# Altium schematic symbol library kmilo17pet-TI_LDO_400_7500.SchLib: 1409 symbols (part 17 of 60)
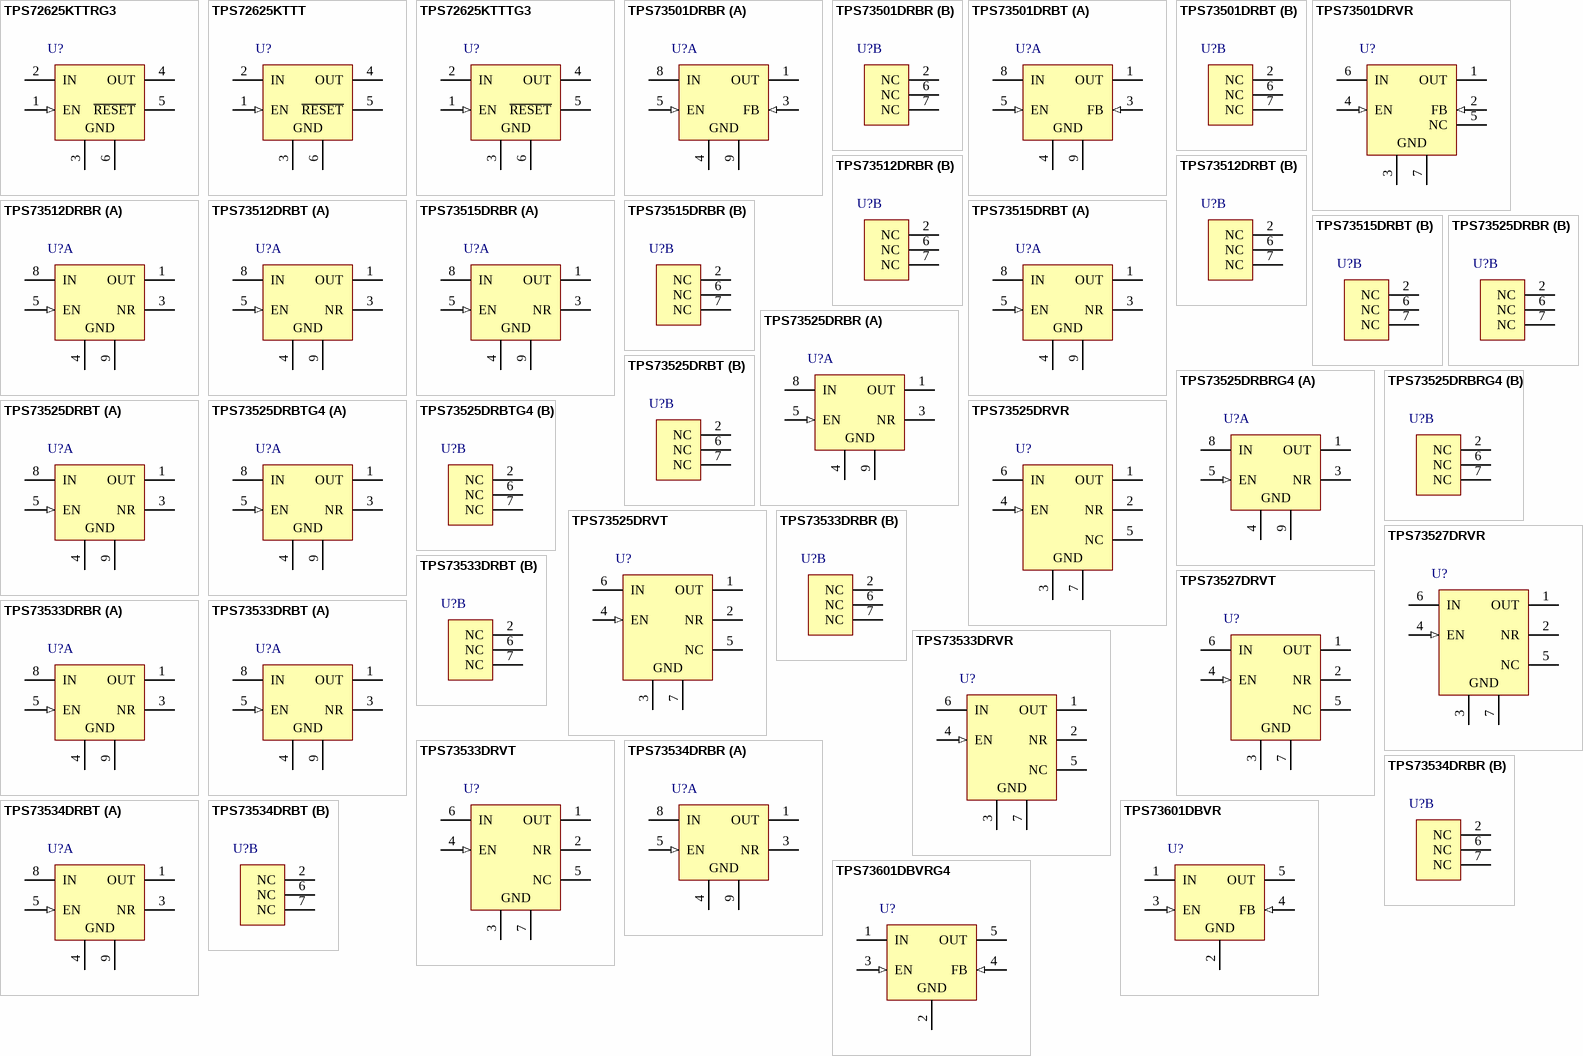
[diagram p66: symbols TPS72625KTTRG3 to TPS73601DBVRG4]

## TPS72625KTTTG3
designator U?
Single Output Any Cap LDO, 1 A, Fixed 2.5 V Output, 1.8 to 6 V Input, with Integrated SVS, 5-pin DDPAK (KTT), -40 to 125 degC, Green (RoHS & no Sb/Br); Manufacturer: Texas Instruments; PartNumber: TPS72625KTTTG3; Accuracy(%): 2; Fixed Output Options(V): 2.5; Iout(Max)(A): 1; Iq(Typ)(mA): 0.07; SubFamily: Single Channel LDO; Vdo(Typ)(mV): 170; Vin(Max)(V): 6; Vin(Min)(V): 1.8; DatasheetVersion: SLVS403H; PackageVersion: 4200577-3/F; PackageReference: KTT5; PackageDescription: 3-Pin Plastic Flange Mount, Body 10.16 x 10.34 mm, Pitch 1.7 mm; Supplier 1: Digi-Key; Supplier Part Number 1: TPS72625KTTTG3-ND; Supplier 2: Mouser; Supplier Part Number 2: 595-TPS72625KTTTG3; Eco-Plan: Green (RoHS & no Sb/Br); Vout Adj(Max)(V): 2.5; Vout Adj(Min)(V): 2.5; Mounting Technology: Surface Mount; Code_JEDEC: TO-263; ComponentLink1Description: Manufacturer URL; ComponentLink1URL: http://www.ti.com/; ComponentLink2Description: Datasheet; ComponentLink2URL: http://www.ti.com/general/docs/lit/getliterature.tsp?genericPartNumber=TPS72625&fileType=pdf; ComponentLink3Description: Package Specification; ComponentLink3URL: http://www.ti.com/litv/pdf/mpsf007e
footprint TI-KTT5_N (DPAK, 5-Leads, Body 10.16x8.925mm, Pitch 1.7mm, IPC Medium Density)
footprint TI-KTT5_L (DPAK, 5-Leads, Body 10.16x8.925mm, Pitch 1.7mm, IPC High Density)
footprint TI-KTT5_M (DPAK, 5-Leads, Body 10.16x8.925mm, Pitch 1.7mm, IPC Low Density)
pins: 1 EN (in) "Enable input", 2 IN (power) "Input supply voltage", 3 GND (power) "Ground", 4 OUT (power) "Regulated output voltage", 5 ~{RESET} (oc) "This terminal is the R\E\S\E\T\ output. When used with a pull-up resistor, this open-drain output provides the active low R\E\S\E\T\ signal when the regulator output voltage drops more than 5% below its nominal output (See Datasheet)", 6 GND (power) "Exposed Thermal Tab"

## TPS73501DRBR
designator U?
Single Output High PSRR LDO, 500 mA, Adjustable 1.25 to 6 V Output, 2.7 to 6.5 V Input, with Low IQ, 8-pin SON (DRB), -40 to 125 degC, Green (RoHS & no Sb/Br); Manufacturer: Texas Instruments; PartNumber: TPS73501DRBR; Accuracy(%): 2; Iout(Max)(A): 0.5; Iq(Typ)(mA): 0.04; SubFamily: Single Channel LDO; Vdo(Typ)(mV): 280; Vin(Max)(V): 6.5; Vin(Min)(V): 2.7; Vout Adj(Max)(V): 6; Vout Adj(Min)(V): 1.25; DatasheetVersion: SBVS087J; PackageVersion: 4203482-2/K; PackageReference: DRB8-1750X1500TP; PackageDescription: 8-Pin Plastic Small Outline, Body 3 x 3 mm, Pitch 0.65 mm; Supplier 1: Digi-Key; Supplier Part Number 1: TPS73501DRBR-ND; Supplier 2: Newark; Supplier Part Number 2: 25R0143; Supplier 3: Mouser; Supplier Part Number 3: 595-TPS73501DRBR; Eco-Plan: Green (RoHS & no Sb/Br); Mounting Technology: Surface Mount; ComponentLink1Description: Manufacturer URL; ComponentLink1URL: http://www.ti.com/; ComponentLink2Description: Datasheet; ComponentLink2URL: http://www.ti.com/general/docs/lit/getliterature.tsp?genericPartNumber=TPS73501&fileType=pdf; ComponentLink3Description: Package Specification; ComponentLink3URL: http://www.ti.com/litv/pdf/mpds118h
footprint TI-DRB8-1750X1500TP_V (SON, 8-Leads, Body 3x3mm, Pitch 0.65mm, Thermal Pad 1.50 x 3.8mm)
part A pins: 1 OUT (power) "Output of the regulator. A small capacitor (total typical capacitance >= 2.0uF ceramic) is needed from this pin to ground to assure stability.", 3 FB (in) "Adjustable version only; this is the input to the control loop error amplifier, and is used to set the output voltage of the device.", 4 GND (power) "Ground", 5 EN (in) "Driving the enable pin (EN) high turns on the regulator. Driving this pin low puts the regulator into shutdown mode. EN can be connected to IN if not used.", 8 IN (power) "Input supply.", 9 GND (power) "The pad must be tied to GND."
part B pins: 2 NC "Not internally connected. This pin must either be left open, or tied to GND.", 6 NC "Not internally connected. This pin must either be left open, or tied to GND.", 7 NC "Not internally connected. This pin must either be left open, or tied to GND."

## TPS73501DRBT
designator U?
Single Output High PSRR LDO, 500 mA, Adjustable 1.25 to 6 V Output, 2.7 to 6.5 V Input, with Low IQ, 8-pin SON (DRB), -40 to 125 degC, Green (RoHS & no Sb/Br); Manufacturer: Texas Instruments; PartNumber: TPS73501DRBT; Accuracy(%): 2; Iout(Max)(A): 0.5; Iq(Typ)(mA): 0.04; SubFamily: Single Channel LDO; Vdo(Typ)(mV): 280; Vin(Max)(V): 6.5; Vin(Min)(V): 2.7; Vout Adj(Max)(V): 6; Vout Adj(Min)(V): 1.25; DatasheetVersion: SBVS087J; PackageVersion: 4203482-2/K; PackageReference: DRB8-1750X1500TP; PackageDescription: 8-Pin Plastic Small Outline, Body 3 x 3 mm, Pitch 0.65 mm; Supplier 1: Digi-Key; Supplier Part Number 1: 296-24873-2-ND; Supplier 2: Digi-Key; Supplier Part Number 2: 296-24873-1-ND; Supplier 3: Digi-Key; Supplier Part Number 3: 296-24873-6-ND; Supplier 4: Farnell; Supplier Part Number 4: 2075423; Supplier 5: Newark; Supplier Part Number 5: 82T3172; Supplier 6: Newark; Supplier Part Number 6: 25R0144; Supplier 7: Mouser; Supplier Part Number 7: 595-TPS73501DRBT; Eco-Plan: Green (RoHS & no Sb/Br); Mounting Technology: Surface Mount; ComponentLink1Description: Manufacturer URL; ComponentLink1URL: http://www.ti.com/; ComponentLink2Description: Datasheet; ComponentLink2URL: http://www.ti.com/general/docs/lit/getliterature.tsp?genericPartNumber=TPS73501&fileType=pdf; ComponentLink3Description: Package Specification; ComponentLink3URL: http://www.ti.com/litv/pdf/mpds118h
footprint TI-DRB8-1750X1500TP_V (SON, 8-Leads, Body 3x3mm, Pitch 0.65mm, Thermal Pad 1.50 x 3.8mm)
part A pins: 1 OUT (power) "Output of the regulator. A small capacitor (total typical capacitance >= 2.0uF ceramic) is needed from this pin to ground to assure stability.", 3 FB (in) "Adjustable version only; this is the input to the control loop error amplifier, and is used to set the output voltage of the device.", 4 GND (power) "Ground", 5 EN (in) "Driving the enable pin (EN) high turns on the regulator. Driving this pin low puts the regulator into shutdown mode. EN can be connected to IN if not used.", 8 IN (power) "Input supply.", 9 GND (power) "The pad must be tied to GND."
part B pins: 2 NC "Not internally connected. This pin must either be left open, or tied to GND.", 6 NC "Not internally connected. This pin must either be left open, or tied to GND.", 7 NC "Not internally connected. This pin must either be left open, or tied to GND."

## TPS73501DRVR
designator U?
Single Output High PSRR LDO, 500 mA, Adjustable 1.25 to 6 V Output, 2.7 to 6.5 V Input, with Low IQ, 6-pin SON (DRV), -40 to 125 degC, Green (RoHS & no Sb/Br); Manufacturer: Texas Instruments; PartNumber: TPS73501DRVR; Accuracy(%): 2; Iout(Max)(A): 0.5; Iq(Typ)(mA): 0.04; SubFamily: Single Channel LDO; Vdo(Typ)(mV): 280; Vin(Max)(V): 6.5; Vin(Min)(V): 2.7; Vout Adj(Max)(V): 6; Vout Adj(Min)(V): 1.25; DatasheetVersion: SBVS087J; PackageVersion: 4206925/E; PackageReference: DRV6-1600X1000TP; PackageDescription: 6-Pin Plastic Small Outline No-Lead, Body 2 x 2 mm, Pitch 0.65 mm; Supplier 1: Digi-Key; Supplier Part Number 1: 296-34785-2-ND; Supplier 2: Digi-Key; Supplier Part Number 2: 296-34785-1-ND; Supplier 3: Digi-Key; Supplier Part Number 3: 296-34785-6-ND; Supplier 4: Newark; Supplier Part Number 4: 27W9763; Supplier 5: Mouser; Supplier Part Number 5: 595-TPS73501DRVR; Eco-Plan: Green (RoHS & no Sb/Br); Mounting Technology: Surface Mount; ComponentLink1Description: Manufacturer URL; ComponentLink1URL: http://www.ti.com/; ComponentLink2Description: Datasheet; ComponentLink2URL: http://www.ti.com/general/docs/lit/getliterature.tsp?genericPartNumber=TPS73501&fileType=pdf; ComponentLink3Description: Package Specification; ComponentLink3URL: http://www.ti.com/litv/pdf/mpds216d
footprint TI-DRV6-1600X1000TP_V (SON, 6-Leads, Body 2x2mm, Pitch 0.65mm, Thermal Pad 1X1.6mm)
pins: 1 OUT (power) "Output of the regulator. A small capacitor (total typical capacitance = 2.0uF ceramic) is needed from this pin to ground to assure stability.", 2 FB (in) "Adjustable version only; this is the input to the control loop error amplifier, and is used to set the output voltage of the device.", 3 GND (power) "Ground", 4 EN (in) "Driving the enable pin (EN) high turns on the regulator. Driving this pin low puts the regulator into shutdown mode. EN can be connected to IN if not used.", 5 NC "Not internally connected. This pin must either be left open, or tied to GND.", 6 IN (power) "Input supply.", 7 GND (power) "The pad must be tied to GND."

## TPS73512DRBR
designator U?
Single Output High PSRR LDO, 500 mA, Fixed 1.2 V Output, 2.7 to 6.5 V Input, with Low IQ, 8-pin SON (DRB), -40 to 125 degC, Green (RoHS & no Sb/Br); Manufacturer: Texas Instruments; PartNumber: TPS73512DRBR; Accuracy(%): 2; Fixed Output Options(V): 1.2; Iout(Max)(A): 0.5; Iq(Typ)(mA): 0.04; SubFamily: Single Channel LDO; Vdo(Typ)(mV): 280; Vin(Max)(V): 6.5; Vin(Min)(V): 2.7; DatasheetVersion: SBVS087J; PackageVersion: 4203482-2/K; PackageReference: DRB8-1750X1500TP; PackageDescription: 8-Pin Plastic Small Outline, Body 3 x 3 mm, Pitch 0.65 mm; Supplier 1: Digi-Key; Supplier Part Number 1: TPS73512DRBR-ND; Supplier 2: Mouser; Supplier Part Number 2: 595-TPS73512DRBR; Eco-Plan: Green (RoHS & no Sb/Br); Vout Adj(Max)(V): 1.2; Vout Adj(Min)(V): 1.2; Mounting Technology: Surface Mount; ComponentLink1Description: Manufacturer URL; ComponentLink1URL: http://www.ti.com/; ComponentLink2Description: Datasheet; ComponentLink2URL: http://www.ti.com/general/docs/lit/getliterature.tsp?genericPartNumber=TPS73512&fileType=pdf; ComponentLink3Description: Package Specification; ComponentLink3URL: http://www.ti.com/litv/pdf/mpds118h
footprint TI-DRB8-1750X1500TP_V (SON, 8-Leads, Body 3x3mm, Pitch 0.65mm, Thermal Pad 1.50 x 3.8mm)
part A pins: 1 OUT (power) "Output of the regulator. A small capacitor (total typical capacitance = 2.0uF ceramic) is needed from this pin to ground to assure stability.", 3 NR "Fixed voltage versions only; connecting an external capacitor to this pin bypasses noise generated by the internal bandgap. This allows output noise to be reduced to very low levels.", 4 GND (power) "Ground", 5 EN (in) "Driving the enable pin (EN) high turns on the regulator. Driving this pin low puts the regulator into shutdown mode. EN can be connected to IN if not used.", 8 IN (power) "Input supply.", 9 GND (power) "The pad must be tied to GND."
part B pins: 2 NC "Not internally connected. This pin must either be left open, or tied to GND.", 6 NC "Not internally connected. This pin must either be left open, or tied to GND.", 7 NC "Not internally connected. This pin must either be left open, or tied to GND."

## TPS73512DRBT
designator U?
Single Output High PSRR LDO, 500 mA, Fixed 1.2 V Output, 2.7 to 6.5 V Input, with Low IQ, 8-pin SON (DRB), -40 to 125 degC, Green (RoHS & no Sb/Br); Manufacturer: Texas Instruments; PartNumber: TPS73512DRBT; Accuracy(%): 2; Fixed Output Options(V): 1.2; Iout(Max)(A): 0.5; Iq(Typ)(mA): 0.04; SubFamily: Single Channel LDO; Vdo(Typ)(mV): 280; Vin(Max)(V): 6.5; Vin(Min)(V): 2.7; DatasheetVersion: SBVS087J; PackageVersion: 4203482-2/K; PackageReference: DRB8-1750X1500TP; PackageDescription: 8-Pin Plastic Small Outline, Body 3 x 3 mm, Pitch 0.65 mm; Supplier 1: Digi-Key; Supplier Part Number 1: 296-27804-2-ND; Supplier 2: Digi-Key; Supplier Part Number 2: 296-27804-1-ND; Supplier 3: Digi-Key; Supplier Part Number 3: 296-27804-6-ND; Supplier 4: Newark; Supplier Part Number 4: 01T0890; Supplier 5: Mouser; Supplier Part Number 5: 595-TPS73512DRBT; Eco-Plan: Green (RoHS & no Sb/Br); Vout Adj(Max)(V): 1.2; Vout Adj(Min)(V): 1.2; Mounting Technology: Surface Mount; ComponentLink1Description: Manufacturer URL; ComponentLink1URL: http://www.ti.com/; ComponentLink2Description: Datasheet; ComponentLink2URL: http://www.ti.com/general/docs/lit/getliterature.tsp?genericPartNumber=TPS73512&fileType=pdf; ComponentLink3Description: Package Specification; ComponentLink3URL: http://www.ti.com/litv/pdf/mpds118h
footprint TI-DRB8-1750X1500TP_V (SON, 8-Leads, Body 3x3mm, Pitch 0.65mm, Thermal Pad 1.50 x 3.8mm)
part A pins: 1 OUT (power) "Output of the regulator. A small capacitor (total typical capacitance = 2.0uF ceramic) is needed from this pin to ground to assure stability.", 3 NR "Fixed voltage versions only; connecting an external capacitor to this pin bypasses noise generated by the internal bandgap. This allows output noise to be reduced to very low levels.", 4 GND (power) "Ground", 5 EN (in) "Driving the enable pin (EN) high turns on the regulator. Driving this pin low puts the regulator into shutdown mode. EN can be connected to IN if not used.", 8 IN (power) "Input supply.", 9 GND (power) "The pad must be tied to GND."
part B pins: 2 NC "Not internally connected. This pin must either be left open, or tied to GND.", 6 NC "Not internally connected. This pin must either be left open, or tied to GND.", 7 NC "Not internally connected. This pin must either be left open, or tied to GND."

## TPS73515DRBR
designator U?
Single Output High PSRR LDO, 500 mA, Fixed 1.5 V Output, 2.7 to 6.5 V Input, with Low IQ, 8-pin SON (DRB), -40 to 125 degC, Green (RoHS & no Sb/Br); Manufacturer: Texas Instruments; PartNumber: TPS73515DRBR; Accuracy(%): 2; Fixed Output Options(V): 1.5; Iout(Max)(A): 0.5; Iq(Typ)(mA): 0.04; SubFamily: Single Channel LDO; Vdo(Typ)(mV): 280; Vin(Max)(V): 6.5; Vin(Min)(V): 2.7; DatasheetVersion: SBVS087J; PackageVersion: 4203482-2/K; PackageReference: DRB8-1750X1500TP; PackageDescription: 8-Pin Plastic Small Outline, Body 3 x 3 mm, Pitch 0.65 mm; Supplier 1: Digi-Key; Supplier Part Number 1: TPS73515DRBR-ND; Supplier 2: Mouser; Supplier Part Number 2: 595-TPS73515DRBR; Eco-Plan: Green (RoHS & no Sb/Br); Vout Adj(Max)(V): 1.5; Vout Adj(Min)(V): 1.5; Mounting Technology: Surface Mount; ComponentLink1Description: Manufacturer URL; ComponentLink1URL: http://www.ti.com/; ComponentLink2Description: Datasheet; ComponentLink2URL: http://www.ti.com/general/docs/lit/getliterature.tsp?genericPartNumber=TPS73515&fileType=pdf; ComponentLink3Description: Package Specification; ComponentLink3URL: http://www.ti.com/litv/pdf/mpds118h
footprint TI-DRB8-1750X1500TP_V (SON, 8-Leads, Body 3x3mm, Pitch 0.65mm, Thermal Pad 1.50 x 3.8mm)
part A pins: 1 OUT (power) "Output of the regulator. A small capacitor (total typical capacitance = 2.0uF ceramic) is needed from this pin to ground to assure stability.", 3 NR "Fixed voltage versions only; connecting an external capacitor to this pin bypasses noise generated by the internal bandgap. This allows output noise to be reduced to very low levels.", 4 GND (power) "Ground", 5 EN (in) "Driving the enable pin (EN) high turns on the regulator. Driving this pin low puts the regulator into shutdown mode. EN can be connected to IN if not used.", 8 IN (power) "Input supply.", 9 GND (power) "The pad must be tied to GND."
part B pins: 2 NC "Not internally connected. This pin must either be left open, or tied to GND.", 6 NC "Not internally connected. This pin must either be left open, or tied to GND.", 7 NC "Not internally connected. This pin must either be left open, or tied to GND."

## TPS73515DRBT
designator U?
Single Output High PSRR LDO, 500 mA, Fixed 1.5 V Output, 2.7 to 6.5 V Input, with Low IQ, 8-pin SON (DRB), -40 to 125 degC, Green (RoHS & no Sb/Br); Manufacturer: Texas Instruments; PartNumber: TPS73515DRBT; Accuracy(%): 2; Fixed Output Options(V): 1.5; Iout(Max)(A): 0.5; Iq(Typ)(mA): 0.04; SubFamily: Single Channel LDO; Vdo(Typ)(mV): 280; Vin(Max)(V): 6.5; Vin(Min)(V): 2.7; DatasheetVersion: SBVS087J; PackageVersion: 4203482-2/K; PackageReference: DRB8-1750X1500TP; PackageDescription: 8-Pin Plastic Small Outline, Body 3 x 3 mm, Pitch 0.65 mm; Supplier 1: Digi-Key; Supplier Part Number 1: 296-28076-2-ND; Supplier 2: Digi-Key; Supplier Part Number 2: 296-28076-1-ND; Supplier 3: Digi-Key; Supplier Part Number 3: 296-28076-6-ND; Supplier 4: Mouser; Supplier Part Number 4: 595-TPS73515DRBT; Eco-Plan: Green (RoHS & no Sb/Br); Vout Adj(Max)(V): 1.5; Vout Adj(Min)(V): 1.5; Mounting Technology: Surface Mount; ComponentLink1Description: Manufacturer URL; ComponentLink1URL: http://www.ti.com/; ComponentLink2Description: Datasheet; ComponentLink2URL: http://www.ti.com/general/docs/lit/getliterature.tsp?genericPartNumber=TPS73515&fileType=pdf; ComponentLink3Description: Package Specification; ComponentLink3URL: http://www.ti.com/litv/pdf/mpds118h
footprint TI-DRB8-1750X1500TP_V (SON, 8-Leads, Body 3x3mm, Pitch 0.65mm, Thermal Pad 1.50 x 3.8mm)
part A pins: 1 OUT (power) "Output of the regulator. A small capacitor (total typical capacitance = 2.0uF ceramic) is needed from this pin to ground to assure stability.", 3 NR "Fixed voltage versions only; connecting an external capacitor to this pin bypasses noise generated by the internal bandgap. This allows output noise to be reduced to very low levels.", 4 GND (power) "Ground", 5 EN (in) "Driving the enable pin (EN) high turns on the regulator. Driving this pin low puts the regulator into shutdown mode. EN can be connected to IN if not used.", 8 IN (power) "Input supply.", 9 GND (power) "The pad must be tied to GND."
part B pins: 2 NC "Not internally connected. This pin must either be left open, or tied to GND.", 6 NC "Not internally connected. This pin must either be left open, or tied to GND.", 7 NC "Not internally connected. This pin must either be left open, or tied to GND."

## TPS73525DRBR
designator U?
Single Output High PSRR LDO, 500 mA, Fixed 2.5 V Output, 2.7 to 6.5 V Input, with Low IQ, 8-pin SON (DRB), -40 to 125 degC, Green (RoHS & no Sb/Br); Manufacturer: Texas Instruments; PartNumber: TPS73525DRBR; Accuracy(%): 2; Fixed Output Options(V): 2.5; Iout(Max)(A): 0.5; Iq(Typ)(mA): 0.04; SubFamily: Single Channel LDO; Vdo(Typ)(mV): 280; Vin(Max)(V): 6.5; Vin(Min)(V): 2.7; DatasheetVersion: SBVS087J; PackageVersion: 4203482-2/K; PackageReference: DRB8-1750X1500TP; PackageDescription: 8-Pin Plastic Small Outline, Body 3 x 3 mm, Pitch 0.65 mm; Supplier 1: Digi-Key; Supplier Part Number 1: 296-23647-2-ND; Supplier 2: Digi-Key; Supplier Part Number 2: 296-23647-1-ND; Supplier 3: Digi-Key; Supplier Part Number 3: 296-23647-6-ND; Supplier 4: Newark; Supplier Part Number 4: 03P5257; Supplier 5: Mouser; Supplier Part Number 5: 595-TPS73525DRBR; Eco-Plan: Green (RoHS & no Sb/Br); Vout Adj(Max)(V): 2.5; Vout Adj(Min)(V): 2.5; Mounting Technology: Surface Mount; ComponentLink1Description: Manufacturer URL; ComponentLink1URL: http://www.ti.com/; ComponentLink2Description: Datasheet; ComponentLink2URL: http://www.ti.com/general/docs/lit/getliterature.tsp?genericPartNumber=TPS73525&fileType=pdf; ComponentLink3Description: Package Specification; ComponentLink3URL: http://www.ti.com/litv/pdf/mpds118h
footprint TI-DRB8-1750X1500TP_V (SON, 8-Leads, Body 3x3mm, Pitch 0.65mm, Thermal Pad 1.50 x 3.8mm)
part A pins: 1 OUT (power) "Output of the regulator. A small capacitor (total typical capacitance = 2.0uF ceramic) is needed from this pin to ground to assure stability.", 3 NR "Fixed voltage versions only; connecting an external capacitor to this pin bypasses noise generated by the internal bandgap. This allows output noise to be reduced to very low levels.", 4 GND (power) "Ground", 5 EN (in) "Driving the enable pin (EN) high turns on the regulator. Driving this pin low puts the regulator into shutdown mode. EN can be connected to IN if not used.", 8 IN (power) "Input supply.", 9 GND (power) "The pad must be tied to GND."
part B pins: 2 NC "Not internally connected. This pin must either be left open, or tied to GND.", 6 NC "Not internally connected. This pin must either be left open, or tied to GND.", 7 NC "Not internally connected. This pin must either be left open, or tied to GND."

## TPS73525DRBRG4
designator U?
Single Output High PSRR LDO, 500 mA, Fixed 2.5 V Output, 2.7 to 6.5 V Input, with Low IQ, 8-pin SON (DRB), -40 to 125 degC, Green (RoHS & no Sb/Br); Manufacturer: Texas Instruments; PartNumber: TPS73525DRBRG4; Accuracy(%): 2; Fixed Output Options(V): 2.5; Iout(Max)(A): 0.5; Iq(Typ)(mA): 0.04; SubFamily: Single Channel LDO; Vdo(Typ)(mV): 280; Vin(Max)(V): 6.5; Vin(Min)(V): 2.7; DatasheetVersion: SBVS087J; PackageVersion: 4203482-2/K; PackageReference: DRB8-1750X1500TP; PackageDescription: 8-Pin Plastic Small Outline, Body 3 x 3 mm, Pitch 0.65 mm; Supplier 1: Digi-Key; Supplier Part Number 1: TPS73525DRBRG4-ND; Supplier 2: Mouser; Supplier Part Number 2: 595-TPS73525DRBRG4; Eco-Plan: Green (RoHS & no Sb/Br); Vout Adj(Max)(V): 2.5; Vout Adj(Min)(V): 2.5; Mounting Technology: Surface Mount; ComponentLink1Description: Manufacturer URL; ComponentLink1URL: http://www.ti.com/; ComponentLink2Description: Datasheet; ComponentLink2URL: http://www.ti.com/general/docs/lit/getliterature.tsp?genericPartNumber=TPS73525&fileType=pdf; ComponentLink3Description: Package Specification; ComponentLink3URL: http://www.ti.com/litv/pdf/mpds118h
footprint TI-DRB8-1750X1500TP_V (SON, 8-Leads, Body 3x3mm, Pitch 0.65mm, Thermal Pad 1.50 x 3.8mm)
part A pins: 1 OUT (power) "Output of the regulator. A small capacitor (total typical capacitance = 2.0uF ceramic) is needed from this pin to ground to assure stability.", 3 NR "Fixed voltage versions only; connecting an external capacitor to this pin bypasses noise generated by the internal bandgap. This allows output noise to be reduced to very low levels.", 4 GND (power) "Ground", 5 EN (in) "Driving the enable pin (EN) high turns on the regulator. Driving this pin low puts the regulator into shutdown mode. EN can be connected to IN if not used.", 8 IN (power) "Input supply.", 9 GND (power) "The pad must be tied to GND."
part B pins: 2 NC "Not internally connected. This pin must either be left open, or tied to GND.", 6 NC "Not internally connected. This pin must either be left open, or tied to GND.", 7 NC "Not internally connected. This pin must either be left open, or tied to GND."

## TPS73525DRBT
designator U?
Single Output High PSRR LDO, 500 mA, Fixed 2.5 V Output, 2.7 to 6.5 V Input, with Low IQ, 8-pin SON (DRB), -40 to 125 degC, Green (RoHS & no Sb/Br); Manufacturer: Texas Instruments; PartNumber: TPS73525DRBT; Accuracy(%): 2; Fixed Output Options(V): 2.5; Iout(Max)(A): 0.5; Iq(Typ)(mA): 0.04; SubFamily: Single Channel LDO; Vdo(Typ)(mV): 280; Vin(Max)(V): 6.5; Vin(Min)(V): 2.7; DatasheetVersion: SBVS087J; PackageVersion: 4203482-2/K; PackageReference: DRB8-1750X1500TP; PackageDescription: 8-Pin Plastic Small Outline, Body 3 x 3 mm, Pitch 0.65 mm; Supplier 1: Digi-Key; Supplier Part Number 1: 296-29107-2-ND; Supplier 2: Digi-Key; Supplier Part Number 2: 296-29107-1-ND; Supplier 3: Digi-Key; Supplier Part Number 3: 296-29107-6-ND; Supplier 4: Newark; Supplier Part Number 4: 03P5258; Supplier 5: Mouser; Supplier Part Number 5: 595-TPS73525DRBT; Eco-Plan: Green (RoHS & no Sb/Br); Vout Adj(Max)(V): 2.5; Vout Adj(Min)(V): 2.5; Mounting Technology: Surface Mount; ComponentLink1Description: Manufacturer URL; ComponentLink1URL: http://www.ti.com/; ComponentLink2Description: Datasheet; ComponentLink2URL: http://www.ti.com/general/docs/lit/getliterature.tsp?genericPartNumber=TPS73525&fileType=pdf; ComponentLink3Description: Package Specification; ComponentLink3URL: http://www.ti.com/litv/pdf/mpds118h
footprint TI-DRB8-1750X1500TP_V (SON, 8-Leads, Body 3x3mm, Pitch 0.65mm, Thermal Pad 1.50 x 3.8mm)
part A pins: 1 OUT (power) "Output of the regulator. A small capacitor (total typical capacitance = 2.0uF ceramic) is needed from this pin to ground to assure stability.", 3 NR "Fixed voltage versions only; connecting an external capacitor to this pin bypasses noise generated by the internal bandgap. This allows output noise to be reduced to very low levels.", 4 GND (power) "Ground", 5 EN (in) "Driving the enable pin (EN) high turns on the regulator. Driving this pin low puts the regulator into shutdown mode. EN can be connected to IN if not used.", 8 IN (power) "Input supply.", 9 GND (power) "The pad must be tied to GND."
part B pins: 2 NC "Not internally connected. This pin must either be left open, or tied to GND.", 6 NC "Not internally connected. This pin must either be left open, or tied to GND.", 7 NC "Not internally connected. This pin must either be left open, or tied to GND."

## TPS73525DRBTG4
designator U?
Single Output High PSRR LDO, 500 mA, Fixed 2.5 V Output, 2.7 to 6.5 V Input, with Low IQ, 8-pin SON (DRB), -40 to 125 degC, Green (RoHS & no Sb/Br); Manufacturer: Texas Instruments; PartNumber: TPS73525DRBTG4; Accuracy(%): 2; Fixed Output Options(V): 2.5; Iout(Max)(A): 0.5; Iq(Typ)(mA): 0.04; SubFamily: Single Channel LDO; Vdo(Typ)(mV): 280; Vin(Max)(V): 6.5; Vin(Min)(V): 2.7; DatasheetVersion: SBVS087J; PackageVersion: 4203482-2/K; PackageReference: DRB8-1750X1500TP; PackageDescription: 8-Pin Plastic Small Outline, Body 3 x 3 mm, Pitch 0.65 mm; Supplier 1: Digi-Key; Supplier Part Number 1: TPS73525DRBTG4-ND; Supplier 2: Mouser; Supplier Part Number 2: 595-TPS73525DRBTG4; Eco-Plan: Green (RoHS & no Sb/Br); Vout Adj(Max)(V): 2.5; Vout Adj(Min)(V): 2.5; Mounting Technology: Surface Mount; ComponentLink1Description: Manufacturer URL; ComponentLink1URL: http://www.ti.com/; ComponentLink2Description: Datasheet; ComponentLink2URL: http://www.ti.com/general/docs/lit/getliterature.tsp?genericPartNumber=TPS73525&fileType=pdf; ComponentLink3Description: Package Specification; ComponentLink3URL: http://www.ti.com/litv/pdf/mpds118h
footprint TI-DRB8-1750X1500TP_V (SON, 8-Leads, Body 3x3mm, Pitch 0.65mm, Thermal Pad 1.50 x 3.8mm)
part A pins: 1 OUT (power) "Output of the regulator. A small capacitor (total typical capacitance = 2.0uF ceramic) is needed from this pin to ground to assure stability.", 3 NR "Fixed voltage versions only; connecting an external capacitor to this pin bypasses noise generated by the internal bandgap. This allows output noise to be reduced to very low levels.", 4 GND (power) "Ground", 5 EN (in) "Driving the enable pin (EN) high turns on the regulator. Driving this pin low puts the regulator into shutdown mode. EN can be connected to IN if not used.", 8 IN (power) "Input supply.", 9 GND (power) "The pad must be tied to GND."
part B pins: 2 NC "Not internally connected. This pin must either be left open, or tied to GND.", 6 NC "Not internally connected. This pin must either be left open, or tied to GND.", 7 NC "Not internally connected. This pin must either be left open, or tied to GND."

## TPS73525DRVR
designator U?
Single Output High PSRR LDO, 500 mA, Fixed 2.5 V Output, 2.7 to 6.5 V Input, with Low IQ, 6-pin SON (DRV), -40 to 125 degC, Green (RoHS & no Sb/Br); Manufacturer: Texas Instruments; PartNumber: TPS73525DRVR; Accuracy(%): 2; Fixed Output Options(V): 2.5; Iout(Max)(A): 0.5; Iq(Typ)(mA): 0.04; SubFamily: Single Channel LDO; Vdo(Typ)(mV): 280; Vin(Max)(V): 6.5; Vin(Min)(V): 2.7; DatasheetVersion: SBVS087J; PackageVersion: 4206925/E; PackageReference: DRV6-1600X1000TP; PackageDescription: 6-Pin Plastic Small Outline No-Lead, Body 2 x 2 mm, Pitch 0.65 mm; Supplier 1: Digi-Key; Supplier Part Number 1: 296-27480-2-ND; Supplier 2: Digi-Key; Supplier Part Number 2: 296-27480-1-ND; Supplier 3: Digi-Key; Supplier Part Number 3: 296-27480-6-ND; Supplier 4: Newark; Supplier Part Number 4: 79R8612; Supplier 5: Mouser; Supplier Part Number 5: 595-TPS73525DRVR; Eco-Plan: Green (RoHS & no Sb/Br); Vout Adj(Max)(V): 2.5; Vout Adj(Min)(V): 2.5; Mounting Technology: Surface Mount; ComponentLink1Description: Manufacturer URL; ComponentLink1URL: http://www.ti.com/; ComponentLink2Description: Datasheet; ComponentLink2URL: http://www.ti.com/general/docs/lit/getliterature.tsp?genericPartNumber=TPS73525&fileType=pdf; ComponentLink3Description: Package Specification; ComponentLink3URL: http://www.ti.com/litv/pdf/mpds216d
footprint TI-DRV6-1600X1000TP_V (SON, 6-Leads, Body 2x2mm, Pitch 0.65mm, Thermal Pad 1X1.6mm)
pins: 1 OUT (power) "Output of the regulator. A small capacitor (total typical capacitance >= 2.0uF ceramic) is needed from this pin to ground to assure stability.", 2 NR "Fixed voltage versions only; connecting an external capacitor to this pin bypasses noise generated by the internal bandgap. This allows output noise to be reduced to very low levels.", 3 GND (power) "Ground", 4 EN (in) "Driving the enable pin (EN) high turns on the regulator. Driving this pin low puts the regulator into shutdown mode. EN can be connected to IN if not used.", 5 NC "Not internally connected. This pin must either be left open, or tied to GND.", 6 IN (power) "Input supply.", 7 GND (power) "The pad must be tied to GND."

## TPS73525DRVT
designator U?
Single Output High PSRR LDO, 500 mA, Fixed 2.5 V Output, 2.7 to 6.5 V Input, with Low IQ, 6-pin SON (DRV), -40 to 125 degC, Green (RoHS & no Sb/Br); Manufacturer: Texas Instruments; PartNumber: TPS73525DRVT; Accuracy(%): 2; Fixed Output Options(V): 2.5; Iout(Max)(A): 0.5; Iq(Typ)(mA): 0.04; SubFamily: Single Channel LDO; Vdo(Typ)(mV): 280; Vin(Max)(V): 6.5; Vin(Min)(V): 2.7; DatasheetVersion: SBVS087J; PackageVersion: 4206925/E; PackageReference: DRV6-1600X1000TP; PackageDescription: 6-Pin Plastic Small Outline No-Lead, Body 2 x 2 mm, Pitch 0.65 mm; Supplier 1: Digi-Key; Supplier Part Number 1: TPS73525DRVT-ND; Supplier 2: Newark; Supplier Part Number 2: 79R8613; Supplier 3: Mouser; Supplier Part Number 3: 595-TPS73525DRVT; Eco-Plan: Green (RoHS & no Sb/Br); Vout Adj(Max)(V): 2.5; Vout Adj(Min)(V): 2.5; Mounting Technology: Surface Mount; ComponentLink1Description: Manufacturer URL; ComponentLink1URL: http://www.ti.com/; ComponentLink2Description: Datasheet; ComponentLink2URL: http://www.ti.com/general/docs/lit/getliterature.tsp?genericPartNumber=TPS73525&fileType=pdf; ComponentLink3Description: Package Specification; ComponentLink3URL: http://www.ti.com/litv/pdf/mpds216d
footprint TI-DRV6-1600X1000TP_V (SON, 6-Leads, Body 2x2mm, Pitch 0.65mm, Thermal Pad 1X1.6mm)
pins: 1 OUT (power) "Output of the regulator. A small capacitor (total typical capacitance >= 2.0uF ceramic) is needed from this pin to ground to assure stability.", 2 NR "Fixed voltage versions only; connecting an external capacitor to this pin bypasses noise generated by the internal bandgap. This allows output noise to be reduced to very low levels.", 3 GND (power) "Ground", 4 EN (in) "Driving the enable pin (EN) high turns on the regulator. Driving this pin low puts the regulator into shutdown mode. EN can be connected to IN if not used.", 5 NC "Not internally connected. This pin must either be left open, or tied to GND.", 6 IN (power) "Input supply.", 7 GND (power) "The pad must be tied to GND."

## TPS73527DRVR
designator U?
Single Output High PSRR LDO, 500 mA, Fixed 2.7 V Output, 3 to 6.5 V Input, with Low IQ, 6-pin SON (DRV), -40 to 125 degC, Green (RoHS & no Sb/Br); Manufacturer: Texas Instruments; PartNumber: TPS73527DRVR; Accuracy(%): 2; Fixed Output Options(V): 2.7; Iout(Max)(A): 0.5; Iq(Typ)(mA): 0.04; SubFamily: Single Channel LDO; Vdo(Typ)(mV): 280; Vin(Max)(V): 6.5; Vin(Min)(V): 3; DatasheetVersion: SBVS087J; PackageVersion: 4206925/E; PackageReference: DRV6-1600X1000TP; PackageDescription: 6-Pin Plastic Small Outline No-Lead, Body 2 x 2 mm, Pitch 0.65 mm; Supplier 1: Digi-Key; Supplier Part Number 1: TPS73527DRVR-ND; Supplier 2: Mouser; Supplier Part Number 2: 595-TPS73527DRVR; Eco-Plan: Green (RoHS & no Sb/Br); Vout Adj(Max)(V): 2.7; Vout Adj(Min)(V): 2.7; Mounting Technology: Surface Mount; ComponentLink1Description: Manufacturer URL; ComponentLink1URL: http://www.ti.com/; ComponentLink2Description: Datasheet; ComponentLink2URL: http://www.ti.com/general/docs/lit/getliterature.tsp?genericPartNumber=TPS73527&fileType=pdf; ComponentLink3Description: Package Specification; ComponentLink3URL: http://www.ti.com/litv/pdf/mpds216d
footprint TI-DRV6-1600X1000TP_V (SON, 6-Leads, Body 2x2mm, Pitch 0.65mm, Thermal Pad 1X1.6mm)
pins: 1 OUT (power) "Output of the regulator. A small capacitor (total typical capacitance >= 2.0uF ceramic) is needed from this pin to ground to assure stability.", 2 NR "Fixed voltage versions only; connecting an external capacitor to this pin bypasses noise generated by the internal bandgap. This allows output noise to be reduced to very low levels.", 3 GND (power) "Ground", 4 EN (in) "Driving the enable pin (EN) high turns on the regulator. Driving this pin low puts the regulator into shutdown mode. EN can be connected to IN if not used.", 5 NC "Not internally connected. This pin must either be left open, or tied to GND.", 6 IN (power) "Input supply.", 7 GND (power) "The pad must be tied to GND."

## TPS73527DRVT
designator U?
Single Output High PSRR LDO, 500 mA, Fixed 2.7 V Output, 3 to 6.5 V Input, with Low IQ, 6-pin SON (DRV), -40 to 125 degC, Green (RoHS & no Sb/Br); Manufacturer: Texas Instruments; PartNumber: TPS73527DRVT; Accuracy(%): 2; Fixed Output Options(V): 2.7; Iout(Max)(A): 0.5; Iq(Typ)(mA): 0.04; SubFamily: Single Channel LDO; Vdo(Typ)(mV): 280; Vin(Max)(V): 6.5; Vin(Min)(V): 3; DatasheetVersion: SBVS087J; PackageVersion: 4206925/E; PackageReference: DRV6-1600X1000TP; PackageDescription: 6-Pin Plastic Small Outline No-Lead, Body 2 x 2 mm, Pitch 0.65 mm; Supplier 1: Digi-Key; Supplier Part Number 1: 296-28740-2-ND; Supplier 2: Digi-Key; Supplier Part Number 2: 296-28740-1-ND; Supplier 3: Digi-Key; Supplier Part Number 3: 296-28740-6-ND; Supplier 4: Mouser; Supplier Part Number 4: 595-TPS73527DRVT; Eco-Plan: Green (RoHS & no Sb/Br); Vout Adj(Max)(V): 2.7; Vout Adj(Min)(V): 2.7; Mounting Technology: Surface Mount; ComponentLink1Description: Manufacturer URL; ComponentLink1URL: http://www.ti.com/; ComponentLink2Description: Datasheet; ComponentLink2URL: http://www.ti.com/general/docs/lit/getliterature.tsp?genericPartNumber=TPS73527&fileType=pdf; ComponentLink3Description: Package Specification; ComponentLink3URL: http://www.ti.com/litv/pdf/mpds216d
footprint TI-DRV6-1600X1000TP_V (SON, 6-Leads, Body 2x2mm, Pitch 0.65mm, Thermal Pad 1X1.6mm)
pins: 1 OUT (power) "Output of the regulator. A small capacitor (total typical capacitance >= 2.0uF ceramic) is needed from this pin to ground to assure stability.", 2 NR "Fixed voltage versions only; connecting an external capacitor to this pin bypasses noise generated by the internal bandgap. This allows output noise to be reduced to very low levels.", 3 GND (power) "Ground", 4 EN (in) "Driving the enable pin (EN) high turns on the regulator. Driving this pin low puts the regulator into shutdown mode. EN can be connected to IN if not used.", 5 NC "Not internally connected. This pin must either be left open, or tied to GND.", 6 IN (power) "Input supply.", 7 GND (power) "The pad must be tied to GND."

## TPS73533DRBR
designator U?
Single Output High PSRR LDO, 500 mA, Fixed 3.3 V Output, 2.7 to 6.5 V Input, with Low IQ, 8-pin SON (DRB), -40 to 125 degC, Green (RoHS & no Sb/Br); Manufacturer: Texas Instruments; PartNumber: TPS73533DRBR; Accuracy(%): 2; Fixed Output Options(V): 3.3; Iout(Max)(A): 0.5; Iq(Typ)(mA): 0.04; SubFamily: Single Channel LDO; Vdo(Typ)(mV): 280; Vin(Max)(V): 6.5; Vin(Min)(V): 2.7; DatasheetVersion: SBVS087J; PackageVersion: 4203482-2/K; PackageReference: DRB8-1750X1500TP; PackageDescription: 8-Pin Plastic Small Outline, Body 3 x 3 mm, Pitch 0.65 mm; Supplier 1: Digi-Key; Supplier Part Number 1: TPS73533DRBR-ND; Supplier 2: Newark; Supplier Part Number 2: 25R0145; Supplier 3: Mouser; Supplier Part Number 3: 595-TPS73533DRBR; Eco-Plan: Green (RoHS & no Sb/Br); Vout Adj(Max)(V): 3.3; Vout Adj(Min)(V): 3.3; Mounting Technology: Surface Mount; ComponentLink1Description: Manufacturer URL; ComponentLink1URL: http://www.ti.com/; ComponentLink2Description: Datasheet; ComponentLink2URL: http://www.ti.com/general/docs/lit/getliterature.tsp?genericPartNumber=TPS73533&fileType=pdf; ComponentLink3Description: Package Specification; ComponentLink3URL: http://www.ti.com/litv/pdf/mpds118h
footprint TI-DRB8-1750X1500TP_V (SON, 8-Leads, Body 3x3mm, Pitch 0.65mm, Thermal Pad 1.50 x 3.8mm)
part A pins: 1 OUT (power) "Output of the regulator. A small capacitor (total typical capacitance = 2.0uF ceramic) is needed from this pin to ground to assure stability.", 3 NR "Fixed voltage versions only; connecting an external capacitor to this pin bypasses noise generated by the internal bandgap. This allows output noise to be reduced to very low levels.", 4 GND (power) "Ground", 5 EN (in) "Driving the enable pin (EN) high turns on the regulator. Driving this pin low puts the regulator into shutdown mode. EN can be connected to IN if not used.", 8 IN (power) "Input supply.", 9 GND (power) "The pad must be tied to GND."
part B pins: 2 NC "Not internally connected. This pin must either be left open, or tied to GND.", 6 NC "Not internally connected. This pin must either be left open, or tied to GND.", 7 NC "Not internally connected. This pin must either be left open, or tied to GND."

## TPS73533DRBT
designator U?
Single Output High PSRR LDO, 500 mA, Fixed 3.3 V Output, 2.7 to 6.5 V Input, with Low IQ, 8-pin SON (DRB), -40 to 125 degC, Green (RoHS & no Sb/Br); Manufacturer: Texas Instruments; PartNumber: TPS73533DRBT; Accuracy(%): 2; Fixed Output Options(V): 3.3; Iout(Max)(A): 0.5; Iq(Typ)(mA): 0.04; SubFamily: Single Channel LDO; Vdo(Typ)(mV): 280; Vin(Max)(V): 6.5; Vin(Min)(V): 2.7; DatasheetVersion: SBVS087J; PackageVersion: 4203482-2/K; PackageReference: DRB8-1750X1500TP; PackageDescription: 8-Pin Plastic Small Outline, Body 3 x 3 mm, Pitch 0.65 mm; Supplier 1: Digi-Key; Supplier Part Number 1: 296-24854-2-ND; Supplier 2: Digi-Key; Supplier Part Number 2: 296-24854-1-ND; Supplier 3: Digi-Key; Supplier Part Number 3: 296-24854-6-ND; Supplier 4: Farnell; Supplier Part Number 4: 2075415; Supplier 5: Newark; Supplier Part Number 5: 82T3173; Supplier 6: Newark; Supplier Part Number 6: 25R0146; Supplier 7: Mouser; Supplier Part Number 7: 595-TPS73533DRBT; Eco-Plan: Green (RoHS & no Sb/Br); Vout Adj(Max)(V): 3.3; Vout Adj(Min)(V): 3.3; Mounting Technology: Surface Mount; ComponentLink1Description: Manufacturer URL; ComponentLink1URL: http://www.ti.com/; ComponentLink2Description: Datasheet; ComponentLink2URL: http://www.ti.com/general/docs/lit/getliterature.tsp?genericPartNumber=TPS73533&fileType=pdf; ComponentLink3Description: Package Specification; ComponentLink3URL: http://www.ti.com/litv/pdf/mpds118h
footprint TI-DRB8-1750X1500TP_V (SON, 8-Leads, Body 3x3mm, Pitch 0.65mm, Thermal Pad 1.50 x 3.8mm)
part A pins: 1 OUT (power) "Output of the regulator. A small capacitor (total typical capacitance = 2.0uF ceramic) is needed from this pin to ground to assure stability.", 3 NR "Fixed voltage versions only; connecting an external capacitor to this pin bypasses noise generated by the internal bandgap. This allows output noise to be reduced to very low levels.", 4 GND (power) "Ground", 5 EN (in) "Driving the enable pin (EN) high turns on the regulator. Driving this pin low puts the regulator into shutdown mode. EN can be connected to IN if not used.", 8 IN (power) "Input supply.", 9 GND (power) "The pad must be tied to GND."
part B pins: 2 NC "Not internally connected. This pin must either be left open, or tied to GND.", 6 NC "Not internally connected. This pin must either be left open, or tied to GND.", 7 NC "Not internally connected. This pin must either be left open, or tied to GND."

## TPS73533DRVR
designator U?
Single Output High PSRR LDO, 500 mA, Fixed 3.3 V Output, 2.7 to 6.5 V Input, with Low IQ, 6-pin SON (DRV), -40 to 125 degC, Green (RoHS & no Sb/Br); Manufacturer: Texas Instruments; PartNumber: TPS73533DRVR; Accuracy(%): 2; Fixed Output Options(V): 3.3; Iout(Max)(A): 0.5; Iq(Typ)(mA): 0.04; SubFamily: Single Channel LDO; Vdo(Typ)(mV): 280; Vin(Max)(V): 6.5; Vin(Min)(V): 2.7; DatasheetVersion: SBVS087J; PackageVersion: 4206925/E; PackageReference: DRV6-1600X1000TP; PackageDescription: 6-Pin Plastic Small Outline No-Lead, Body 2 x 2 mm, Pitch 0.65 mm; Supplier 1: Digi-Key; Supplier Part Number 1: TPS73533DRVR-ND; Supplier 2: Newark; Supplier Part Number 2: 09R6709; Supplier 3: Mouser; Supplier Part Number 3: 595-TPS73533DRVR; Eco-Plan: Green (RoHS & no Sb/Br); Vout Adj(Max)(V): 3.3; Vout Adj(Min)(V): 3.3; Mounting Technology: Surface Mount; ComponentLink1Description: Manufacturer URL; ComponentLink1URL: http://www.ti.com/; ComponentLink2Description: Datasheet; ComponentLink2URL: http://www.ti.com/general/docs/lit/getliterature.tsp?genericPartNumber=TPS73533&fileType=pdf; ComponentLink3Description: Package Specification; ComponentLink3URL: http://www.ti.com/litv/pdf/mpds216d
footprint TI-DRV6-1600X1000TP_V (SON, 6-Leads, Body 2x2mm, Pitch 0.65mm, Thermal Pad 1X1.6mm)
pins: 1 OUT (power) "Output of the regulator. A small capacitor (total typical capacitance >= 2.0uF ceramic) is needed from this pin to ground to assure stability.", 2 NR "Fixed voltage versions only; connecting an external capacitor to this pin bypasses noise generated by the internal bandgap. This allows output noise to be reduced to very low levels.", 3 GND (power) "Ground", 4 EN (in) "Driving the enable pin (EN) high turns on the regulator. Driving this pin low puts the regulator into shutdown mode. EN can be connected to IN if not used.", 5 NC "Not internally connected. This pin must either be left open, or tied to GND.", 6 IN (power) "Input supply.", 7 GND (power) "The pad must be tied to GND."

## TPS73533DRVT
designator U?
Single Output High PSRR LDO, 500 mA, Fixed 3.3 V Output, 2.7 to 6.5 V Input, with Low IQ, 6-pin SON (DRV), -40 to 125 degC, Green (RoHS & no Sb/Br); Manufacturer: Texas Instruments; PartNumber: TPS73533DRVT; Accuracy(%): 2; Fixed Output Options(V): 3.3; Iout(Max)(A): 0.5; Iq(Typ)(mA): 0.04; SubFamily: Single Channel LDO; Vdo(Typ)(mV): 280; Vin(Max)(V): 6.5; Vin(Min)(V): 2.7; DatasheetVersion: SBVS087J; PackageVersion: 4206925/E; PackageReference: DRV6-1600X1000TP; PackageDescription: 6-Pin Plastic Small Outline No-Lead, Body 2 x 2 mm, Pitch 0.65 mm; Supplier 1: Digi-Key; Supplier Part Number 1: 296-24289-2-ND; Supplier 2: Digi-Key; Supplier Part Number 2: 296-24289-1-ND; Supplier 3: Digi-Key; Supplier Part Number 3: 296-24289-6-ND; Supplier 4: Newark; Supplier Part Number 4: 04R6654; Supplier 5: Mouser; Supplier Part Number 5: 595-TPS73533DRVT; Eco-Plan: Green (RoHS & no Sb/Br); Vout Adj(Max)(V): 3.3; Vout Adj(Min)(V): 3.3; Mounting Technology: Surface Mount; ComponentLink1Description: Manufacturer URL; ComponentLink1URL: http://www.ti.com/; ComponentLink2Description: Datasheet; ComponentLink2URL: http://www.ti.com/general/docs/lit/getliterature.tsp?genericPartNumber=TPS73533&fileType=pdf; ComponentLink3Description: Package Specification; ComponentLink3URL: http://www.ti.com/litv/pdf/mpds216d
footprint TI-DRV6-1600X1000TP_V (SON, 6-Leads, Body 2x2mm, Pitch 0.65mm, Thermal Pad 1X1.6mm)
pins: 1 OUT (power) "Output of the regulator. A small capacitor (total typical capacitance >= 2.0uF ceramic) is needed from this pin to ground to assure stability.", 2 NR "Fixed voltage versions only; connecting an external capacitor to this pin bypasses noise generated by the internal bandgap. This allows output noise to be reduced to very low levels.", 3 GND (power) "Ground", 4 EN (in) "Driving the enable pin (EN) high turns on the regulator. Driving this pin low puts the regulator into shutdown mode. EN can be connected to IN if not used.", 5 NC "Not internally connected. This pin must either be left open, or tied to GND.", 6 IN (power) "Input supply.", 7 GND (power) "The pad must be tied to GND."

## TPS73534DRBR
designator U?
Single Output High PSRR LDO, 500 mA, Fixed 3.4 V Output, 2.7 to 6.5 V Input, with Low IQ, 8-pin SON (DRB), -40 to 125 degC, Green (RoHS & no Sb/Br); Manufacturer: Texas Instruments; PartNumber: TPS73534DRBR; Accuracy(%): 2; Fixed Output Options(V): 3.4; Iout(Max)(A): 0.5; Iq(Typ)(mA): 0.04; SubFamily: Single Channel LDO; Vdo(Typ)(mV): 280; Vin(Max)(V): 6.5; Vin(Min)(V): 2.7; DatasheetVersion: SBVS164; PackageVersion: 4203482-2/K; PackageReference: DRB8-1750X1500TP; PackageDescription: 8-Pin Plastic Small Outline, Body 3 x 3 mm, Pitch 0.65 mm; Supplier 1: Digi-Key; Supplier Part Number 1: 296-27853-2-ND; Supplier 2: Digi-Key; Supplier Part Number 2: 296-27853-1-ND; Supplier 3: Digi-Key; Supplier Part Number 3: 296-27853-6-ND; Supplier 4: Newark; Supplier Part Number 4: 01T0891; Supplier 5: Mouser; Supplier Part Number 5: 595-TPS73534DRBR; Eco-Plan: Green (RoHS & no Sb/Br); Vout Adj(Max)(V): 3.4; Vout Adj(Min)(V): 3.4; Mounting Technology: Surface Mount; ComponentLink1Description: Manufacturer URL; ComponentLink1URL: http://www.ti.com/; ComponentLink2Description: Datasheet; ComponentLink2URL: http://www.ti.com/general/docs/lit/getliterature.tsp?genericPartNumber=TPS73534&fileType=pdf; ComponentLink3Description: Package Specification; ComponentLink3URL: http://www.ti.com/litv/pdf/mpds118h
footprint TI-DRB8-1750X1500TP_V (SON, 8-Leads, Body 3x3mm, Pitch 0.65mm, Thermal Pad 1.50 x 3.8mm)
part A pins: 1 OUT (power) "Output of the regulator. A small capacitor (total typical capacitance = 2.0uF ceramic) is needed from this pin to ground to assure stability.", 3 NR "Fixed voltage versions only; connecting an external capacitor to this pin bypasses noise generated by the internal bandgap. This allows output noise to be reduced to very low levels.", 4 GND (power) "Ground", 5 EN (in) "Driving the enable pin (EN) high turns on the regulator. Driving this pin low puts the regulator into shutdown mode. EN can be connected to IN if not used.", 8 IN (power) "Input supply.", 9 GND (power) "The pad must be tied to GND."
part B pins: 2 NC "Not internally connected. This pin must either be left open, or tied to GND.", 6 NC "Not internally connected. This pin must either be left open, or tied to GND.", 7 NC "Not internally connected. This pin must either be left open, or tied to GND."

## TPS73534DRBT
designator U?
Single Output High PSRR LDO, 500 mA, Fixed 3.4 V Output, 2.7 to 6.5 V Input, with Low IQ, 8-pin SON (DRB), -40 to 125 degC, Green (RoHS & no Sb/Br); Manufacturer: Texas Instruments; PartNumber: TPS73534DRBT; Accuracy(%): 2; Fixed Output Options(V): 3.4; Iout(Max)(A): 0.5; Iq(Typ)(mA): 0.04; SubFamily: Single Channel LDO; Vdo(Typ)(mV): 280; Vin(Max)(V): 6.5; Vin(Min)(V): 2.7; DatasheetVersion: SBVS164; PackageVersion: 4203482-2/K; PackageReference: DRB8-1750X1500TP; PackageDescription: 8-Pin Plastic Small Outline, Body 3 x 3 mm, Pitch 0.65 mm; Supplier 1: Digi-Key; Supplier Part Number 1: TPS73534DRBT-ND; Supplier 2: Newark; Supplier Part Number 2: 01T0892; Supplier 3: Mouser; Supplier Part Number 3: 595-TPS73534DRBT; Eco-Plan: Green (RoHS & no Sb/Br); Vout Adj(Max)(V): 3.4; Vout Adj(Min)(V): 3.4; Mounting Technology: Surface Mount; ComponentLink1Description: Manufacturer URL; ComponentLink1URL: http://www.ti.com/; ComponentLink2Description: Datasheet; ComponentLink2URL: http://www.ti.com/general/docs/lit/getliterature.tsp?genericPartNumber=TPS73534&fileType=pdf; ComponentLink3Description: Package Specification; ComponentLink3URL: http://www.ti.com/litv/pdf/mpds118h
footprint TI-DRB8-1750X1500TP_V (SON, 8-Leads, Body 3x3mm, Pitch 0.65mm, Thermal Pad 1.50 x 3.8mm)
part A pins: 1 OUT (power) "Output of the regulator. A small capacitor (total typical capacitance = 2.0uF ceramic) is needed from this pin to ground to assure stability.", 3 NR "Fixed voltage versions only; connecting an external capacitor to this pin bypasses noise generated by the internal bandgap. This allows output noise to be reduced to very low levels.", 4 GND (power) "Ground", 5 EN (in) "Driving the enable pin (EN) high turns on the regulator. Driving this pin low puts the regulator into shutdown mode. EN can be connected to IN if not used.", 8 IN (power) "Input supply.", 9 GND (power) "The pad must be tied to GND."
part B pins: 2 NC "Not internally connected. This pin must either be left open, or tied to GND.", 6 NC "Not internally connected. This pin must either be left open, or tied to GND.", 7 NC "Not internally connected. This pin must either be left open, or tied to GND."